# Altium footprint library nsop_16_p127_990x390x175_l84x41.PcbLib: 1 footprints
Each footprint in its own frame and in the unit in brackets; x right, y up, seen from the top. Pads: shape width x height; smd on the part's side, far side on the other; paste and mask are expansions set on the pad; w line width, h text height; cw(c..) or ccw(c..) is an arc to the next point about the centre after c.
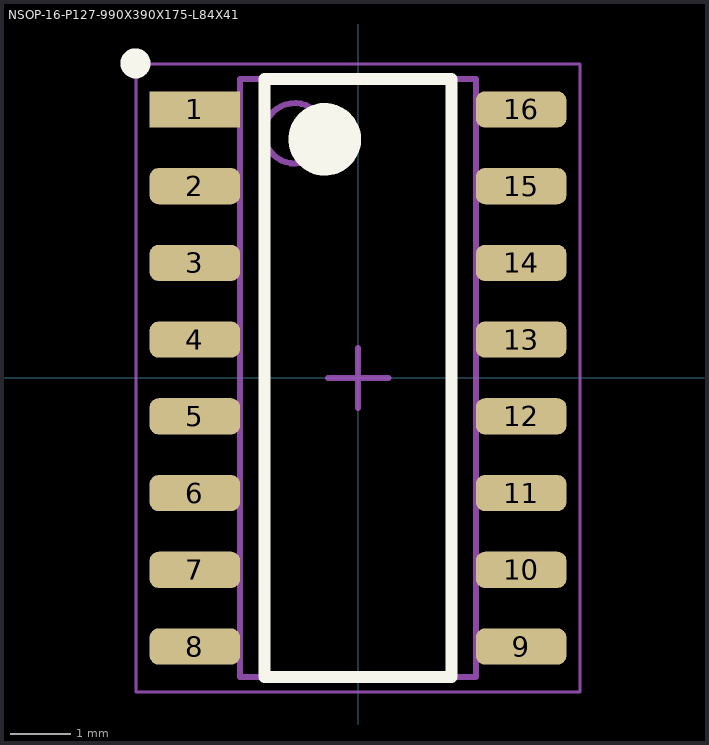
[diagram p0: the footprint, top view; thin cyan lines are the x and y axes]

## NSOP-16-P127-990X390X175-L84X41 [mm] "NSOP, 16-Leads, Body 9,90x3,90mm, Pitch 1,27mm, IPC Medium Density"
height 1.75
pads (16):
  rect 1.5x0.6 smd: 1(-2.7,4.445)
  rrect50% 1.5x0.6 smd: 2(-2.7,3.175) 3(-2.7,1.905) 4(-2.7,0.635) 5(-2.7,-0.635) 6(-2.7,-1.905) 7(-2.7,-3.175) 8(-2.7,-4.445) 9(2.7,-4.445) 10(2.7,-3.175) 11(2.7,-1.905) 12(2.7,-0.635) 13(2.7,0.635) 14(2.7,1.905) 15(2.7,3.175) 16(2.7,4.445)
Top Overlay:
  circle w0.25: c-3.683,5.207 r0.125
  circle w0.6: c-0.55,3.95 r0.3
  lines w0.2: -1.55,-4.95 -1.55,4.95 1.55,4.95 1.55,-4.95 -1.55,-4.95
Top Comment:
  text ".Comment" at 1,5.4 h1.2
Top Designator:
  text ".Designator" at -0.4,5.4 h1.2
Top Component Outline:
  circle w0.1: c-1.05,4.05 r0.5
  lines w0.1: -1.95,-4.95 -1.95,4.95 1.95,4.95 1.95,-4.95 -1.95,-4.95
Top Courtyard (Mech15):
  lines w0.05: -3.675,-5.2 -3.675,5.2 3.675,5.2 3.675,-5.2 -3.675,-5.2
  lines w0.1: -0.5,0 0.5,0 ; 0,-0.5 0,0.5
3D body "NSOP16.STEP": height 1.58, standoff 0, extent -3.117,-4.99 3.118,4.99